# Altium schematic symbol library Various.SchLib: 37 symbols
Pins are listed as number, name and electrical type; pins without a type are passive.

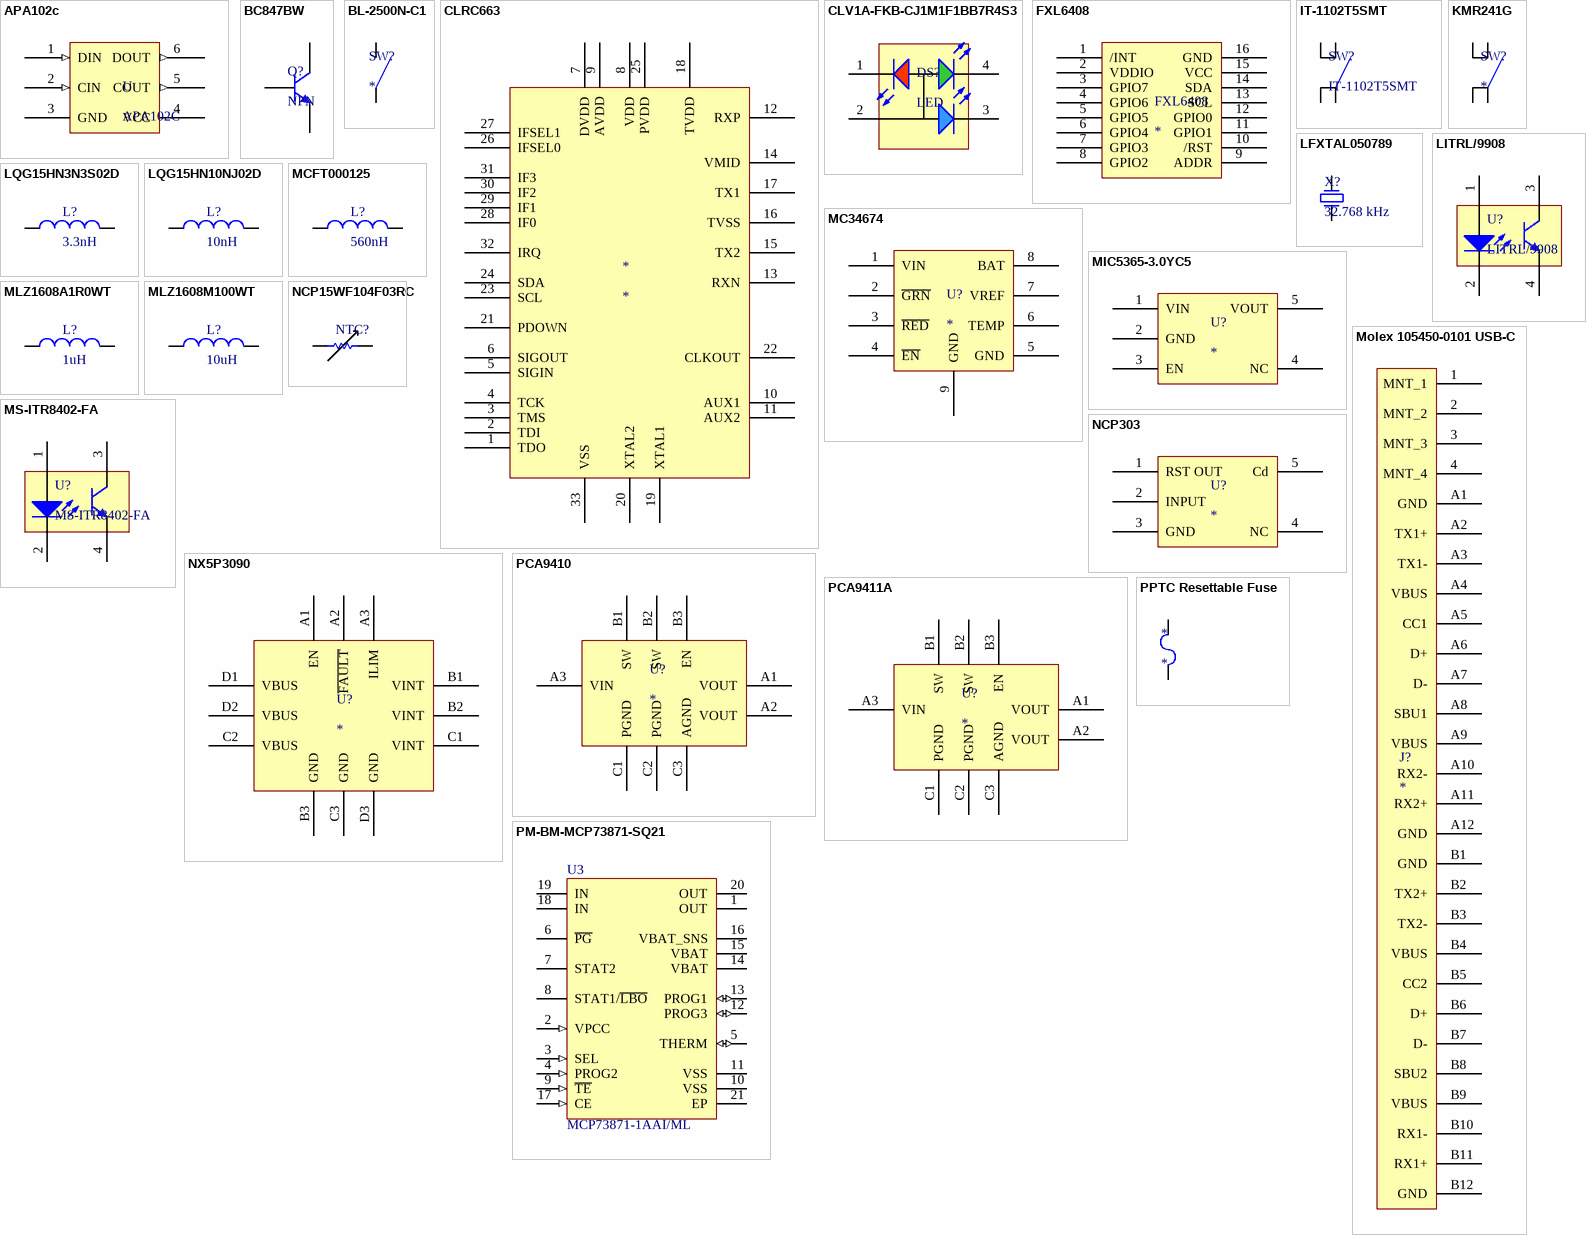
[diagram p0: symbols APA102c to PPTC Resettable Fuse]

## APA102c
designator U, comment APA102C
footprint APA102C (SMD, 6-Leads, Body 5x5mm,)
pins: 1 DIN (in), 2 CIN (in), 3 GND (power), 4 VCC (power), 5 COUT (out), 6 DOUT (out)

## BC847BW
designator Q?, comment NPN
Bipolar (BJT) Single Transistor, General Purpose, NPN, 45 V, 100 MHz, 200 mW, 100 mA, 200 hFE
footprint SOT323
pins: 1 B, 2 E, 3 C

## BL-2500N-C1
designator SW?
SMD vibration sensor
footprint BL-2500N-C1
pins: 1, 2

## CLRC663
designator *
RFID READER, 13.56MHZ, HVQFN-32
footprint HVQFN-32
pins: 1 TDO, 2 TDI, 3 TMS, 4 TCK, 5 SIGIN, 6 SIGOUT, 7 DVDD, 8 VDD, 9 AVDD, 10 AUX1, 11 AUX2, 12 RXP, 13 RXN, 14 VMID, 15 TX2, 16 TVSS, 17 TX1, 18 TVDD, 19 XTAL1, 20 XTAL2, 21 PDOWN, 22 CLKOUT, 23 SCL, 24 SDA, 25 PVDD, 26 IFSEL0, 27 IFSEL1, 28 IF0, 29 IF1, 30 IF2, 31 IF3, 32 IRQ, 33 VSS

## CLV1A-FKB-CJ1M1F1BB7R4S3
designator DS?, comment LED
RGB LED, SMD, 120 °, Round, R 20mA, G 20mA, B 20mA
footprint RGB_LED_3.2x2.8
pins: 1 RED, 2 +, 3 Blue, 4 Green

## FXL6408
designator FXL6408
footprint FXL6408
pins: 1 /INT, 2 VDDIO, 3 GPIO7, 4 GPIO6, 5 GPIO5, 6 GPIO4, 7 GPIO3, 8 GPIO2, 9 ADDR, 10 /RST, 11 GPIO1, 12 GPIO0, 13 SCL, 14 SDA, 15 VCC, 16 GND

## IT-1102T5SMT
designator SW?
Tactile Switch, SPST
footprint IT-1102T5SMT (SPST tactile switch)
pins: 1 A1, 2 B1, 3 A2, 4 B2

## KMR241G
designator SW?
Tactile Switch 2.4x2.8 mm, SPST
footprint KMR241G
pins: 1 A1, 2 B1, 3 A2, 4 B2

## LFXTAL050789
designator X?, comment 32.768 kHz
Crystal, 32.768 kHz, SMD, 2mm x 1.2mm, 12.5 pF, 20 ppm
footprint OSC20x12_2P (Crystal 2.0x1.2 mm 2 Pins)
pins: 1 I/O, 2 I/O

## LITRL/9908
designator U?
Opto Interrupter
footprint LITRL/9908 (Opto Interrupter)
pins: 1 Anode, 2 Cathode, 3 Emitter, 4 Collector

## LQG15HN3N3S02D
designator L?, comment 3.3nH
High Frequency Inductor, LQG15HN Series, 3.3 nH, 300 mA, 0402; Value: 3.3nH
footprint INDC0402
pins: 1, 2

## LQG15HN10NJ02D
designator L?, comment 10nH
High Frequency Inductor, LQG15HN Series, 10 nH, 300 mA, 0402; Value: 10nH
footprint INDC0402
pins: 1, 2

## MC34674
designator U?
High Input Voltage Travel Charger for Single-cell Li-Ion Batteries
footprint UDFN8
pins: 1 VIN (power), 2 ~{GRN} (oc), 3 ~{RED} (oc), 4 ~{EN}, 5 GND (power), 6 TEMP, 7 VREF, 8 BAT, 9 GND (power)

## MCFT000125
designator L?, comment 560nH
High Frequency Inductor, MCFT Series, 560 nH, 230 mA, 0805; Value: 560nH
footprint INDC0805
pins: 1, 2

## MIC5365-3.0YC5
designator U?
3.0V LDO Voltage Regulator
footprint SC-70
pins: 1 VIN, 2 GND, 3 EN, 4 NC, 5 VOUT

## MLZ1608A1R0WT
designator L?, comment 1uH
High Frequency Inductor, MLZ Series, 1 µH, 600 mA, 0603; Value: 1uH
footprint INDC0603
pins: 1, 2

## MLZ1608M100WT
designator L?, comment 10uH
High Frequency Inductor, MLZ Series, 10 µH, 250 mA, 0603; Value: 10uH
footprint INDC0603
pins: 1, 2

## Molex 105450-0101 USB-C
designator J?
USB Shielded I/O Receptacle, Type C, Right Angle, Top Mount, Surface Mount
footprint Molex 105450-0101 USB-C
pins: 1 MNT_1, 2 MNT_2, 3 MNT_3, 4 MNT_4, A1 GND, A2 TX1+, A3 TX1-, A4 VBUS, A5 CC1, A6 D+, A7 D-, A8 SBU1, A9 VBUS, A10 RX2-, A11 RX2+, A12 GND, B1 GND, B2 TX2+, B3 TX2-, B4 VBUS, B5 CC2, B6 D+, B7 D-, B8 SBU2, B9 VBUS, B10 RX1-, B11 RX1+, B12 GND

## MS-ITR8402-FA
designator U?
Opto Interrupter
footprint MS-ITR8402-FA (Opto Interrupter)
pins: 1 Anode, 2 Cathode, 3 Emitter, 4 Collector

## NCP15WF104F03RC
designator NTC?
Thermistor, NTC, 100 kohm, NCP Series, 4250 K, SMD, 0402
footprint THRMC0402
pins: 1, 2

## NCP303
designator U?
3.3 Voltage detector
footprint SOT23-5
pins: 1 RST OUT, 2 INPUT, 3 GND, 4 NC, 5 Cd

## NX5P3090
designator U?
USB PD and type C current-limited power switch
footprint WLCSP12
pins: A1 EN, A2 ~{FAULT}, A3 ILIM, B1 VINT (power), B2 VINT (power), B3 GND (power), C1 VINT (power), C2 VBUS (power), C3 GND (power), D1 VBUS (power), D2 VBUS (power), D3 GND (power)

## PCA9410
designator U?
3.0 MHz, 500 mA, DC-to-DC boost converter, 2.5 min in, 5.0 out, non pass-through
footprint WLCSP9
pins: A1 VOUT, A2 VOUT, A3 VIN, B1 SW, B2 SW, B3 EN, C1 PGND, C2 PGND, C3 AGND

## PCA9411A
designator U?
3.0 MHz, 500 mA, DC-to-DC boost converter, 2.5 min in, 5.25 out, pass-through
footprint WLCSP9
pins: A1 VOUT, A2 VOUT, A3 VIN, B1 SW, B2 SW, B3 EN, C1 PGND, C2 PGND, C3 AGND

## PM-BM-MCP73871-SQ21
designator U3, comment MCP73871-1AAI/ML
Stand-Alone System Load Sharing and Li-Ion/Li-Polymer Battery Charge Management Controller, 4.1V, 20-Pin QFN, Industrial Temperature; PackageDescription: 20-Lead Plastic Quad Flat, No Lead Package (ML) - 4x4x0.9 mm Body [QFN]; PackageVersion: revBB, Aug-2009; DatasheetVersion: revB, May-2009; PackageReference: QFN-ML20
footprint QFN-ML20_N (QFN, 20-Leads, Body 4x4mm, Pitch 0.5mm, Thermal Pad 2.8x2.8mm, IPC Medium Density)
footprint QFN-ML20_L (QFN, 20-Leads, Body 4x4mm, Pitch 0.5mm, Thermal Pad 2.8x2.8mm, IPC High Density)
footprint QFN-ML20_M (QFN, 20-Leads, Body 4x4mm, Pitch 0.5mm, Thermal Pad 2.8x2.8mm, IPC Low Density)
pins: 1 OUT (power), 2 VPCC (in), 3 SEL (in), 4 PROG2 (in), 5 THERM (io), 6 ~{PG} (oc), 7 STAT2 (oc), 8 STAT1/~{LBO} (oc), 9 ~{TE} (in), 10 VSS (power), 11 VSS (power), 12 PROG3 (io), 13 PROG1 (io), 14 VBAT (power), 15 VBAT (power), 16 VBAT_SNS (power), 17 CE (in), 18 IN (power), 19 IN (power), 20 OUT (power), 21 EP (power)

## PPTC Resettable Fuse
designator *
PPTC Resettable Fuse
footprint FUSC0805
pins: 1, 2

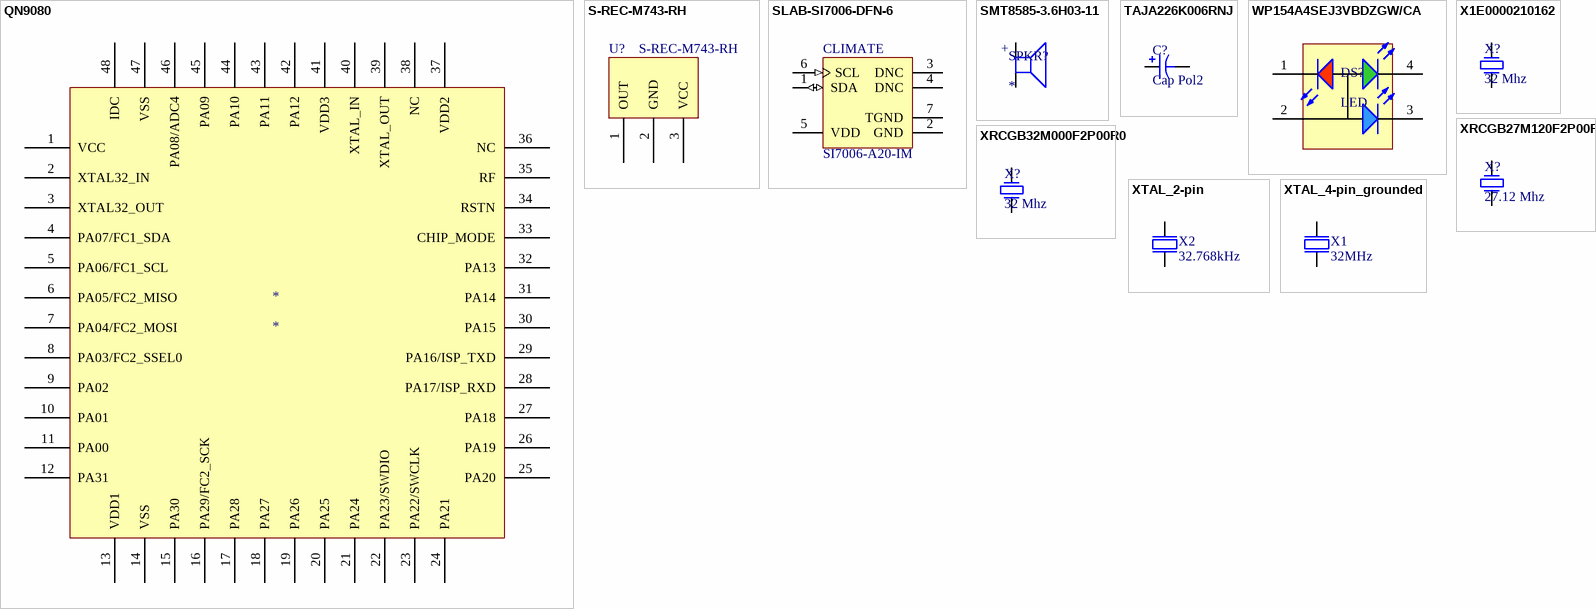
[diagram p1: symbols QN9080 to XTAL_4-pin_grounded]

## QN9080
designator *
BLE microcontroller with 32-bit ARM Cortex-M4
footprint HVQFN-48
pins: 1 VCC, 2 XTAL32_IN, 3 XTAL32_OUT, 4 PA07/FC1_SDA, 5 PA06/FC1_SCL, 6 PA05/FC2_MISO, 7 PA04/FC2_MOSI, 8 PA03/FC2_SSEL0, 9 PA02, 10 PA01, 11 PA00, 12 PA31, 13 VDD1 (power), 14 VSS (power), 15 PA30, 16 PA29/FC2_SCK, 17 PA28, 18 PA27, 19 PA26, 20 PA25, 21 PA24, 22 PA23/SWDIO, 23 PA22/SWCLK, 24 PA21, 25 PA20, 26 PA19, 27 PA18, 28 PA17/ISP_RXD, 29 PA16/ISP_TXD, 30 PA15, 31 PA14, 32 PA13, 33 CHIP_MODE, 34 RSTN, 35 RF, 36 NC, 37 VDD2, 38 NC, 39 XTAL_OUT, 40 XTAL_IN, 41 VDD3 (power), 42 PA12, 43 PA11, 44 PA10, 45 PA09, 46 PA08/ADC4, 47 VSS (power), 48 IDC (power), 49 GND (power) hidden to GND

## S-REC-M743-RH
designator U?
IR Receiver Module 38 kHz
footprint S-REC-M743-RH
pins: 1 OUT, 2 GND (power), 3 VCC (power)

## SLAB-SI7006-DFN-6
designator CLIMATE, comment SI7006-A20-IM
I2C Humidity and Temperature Sensor, 1.9 to 3.6 V, -40 to 125 degC, 6-Pin DFN, RoHS, Tube; Manufacturer: Silicon Labs; Output Type: Digital; Resolution: 12(Humidity)bit,14(Temperature)bit; Minimum Operating Supply Voltage: 1.9V; Sensor Function: Temperature&Humidity; Accuracy: ±1°C,±5%RH; Maximum Operating Supply Voltage: 3.6V; Pin Count: 6; Maximum Operating Temperature: +125°C; Package Reference: DFN-6; Height: 0.75mm; Datasheet URL: https://www.silabs.com/Support%20Documents%2FTechnicalDocs%2FSi7006-A20.pdf; Datasheet Version: Rev. 1.1, 06/2015; Package Type: DFN; Mounting Technology: SurfaceMount; Dimensions: 3x3x0.75mm; Length: 3mm; Package Description: 6-Pin Small Outline No-Lead Package, Body 3 x 3 mm, Pitch 1 mm; Minimum Operating Temperature: -40°C; Interface Type: I2C; Mounting Type: SurfaceMount; Width: 3mm; Manufacturer URL: http://www.silabs.com/
footprint SLAB-DFN-6-1500X2400TP_V (SON, 6-Leads, Body 3x3mm, Pitch 1mm, Thermal Pad 1.6x2.5mm)
pins: 1 SDA (io) "I2C data", 2 GND (power) "Ground. This pin is connected to ground on the circuit board through a trace. Do not connect directly to GND plane.", 3 DNC "These pins should be soldered to pads on the PCB for mechanical stability; they can be electrically floating or tied to VDD (do not tie to GND).", 4 DNC "These pins should be soldered to pads on the PCB for mechanical stability; they can be electrically floating or tied to VDD (do not tie to GND).", 5 VDD (power) "Power. This pin is connected to power on the circuit board.", 6 SCL (in) "I2C clock", 7 TGND (power) "This pad is connected to GND internally. This pad is the main thermal input to the on-chip temperature sensor. The paddle should be soldered to a floating pad."

## SMT8585-3.6H03-11
designator SPKR?
Electro-Magnet Transducer, 2.5-4.5 Vo-p, 15±3ohm
footprint SMT8585-3.6H03-11
pins: 1 +, 2 -, 3 M hidden, 4 M hidden

## TAJA226K006RNJ
designator C?, comment Cap Pol2
Surface Mount Tantalum Capacitor, 22 µF, 6.3 V, TAJ Series, ± 10%, 1206 [3216 Metric]
footprint POLCAP1206
pins: 1, 2

## WP154A4SEJ3VBDZGW/CA
designator DS?, comment LED
RGB LED, 5MM Through Hole, Common Anode
footprint RGB_LED_5MM
pins: 1 RED, 2 +, 3 Blue, 4 Green

## X1E0000210162
designator X?, comment 32 Mhz
Crystal, 32 MHz, SMD, 3.2mm x 2.5mm, 10 ppm, 9 pF, 10 ppm
footprint OSC32X25
pins: 1 I/O, 2 GND hidden to GND, 3 I/O, 4 GND hidden to GND

## XRCGB27M120F2P00R0
designator X?, comment 27.12 Mhz
Crystal, 27.12 MHz, SMD, 2mm x 1.6mm, 20 ppm, 6 pF
footprint OSC20x16
pins: 1 I/O, 2 GND hidden to GND, 3 I/O, 4 GND hidden to GND

## XRCGB32M000F2P00R0
designator X?, comment 32 Mhz
Crystal, 32 MHz, SMD, 2mm x 1.6mm, 20 ppm, 6 pF
footprint OSC20x16
pins: 1 I/O, 2 GND hidden to GND, 3 I/O, 4 GND hidden to GND

## XTAL_2-pin
designator X2, comment 32.768kHz
EPSON TOYOCOM - FC-135 32.768KHZ ±20PPM,9.0PF - CRYSTAL, SM, WATCH; Part Number: XTAL_FC-135 32.768k; 2nd source part number: 127-8037; Note: XTAL SMD 32.768kHz, 3215; Artikkelnr Noca: 22019091; Artikkelnr Simpro: N.A.; Manufacturer: Epson Toyocom; Manufacturer Part Number: FC-135 32.768KHZ ±20PPM,9.0PF; Datasheet: http://www.farnell.com/datasheets/57480.pdf; LatestRevisionDate: 2014-03-27; Pin Count: 2; Publisher: Nordic Semiconductor; Published: 2010-10-18; Value: 32.768kHz; Supplier: Digi-Key; Supplier part number: FC-135 32.7680KA-AC-ND; 2nd source Supplier: Farnell; Footprint Doc: XTAL_3215
footprint XTAL_3215
pins: 1 inp, 2 out

## XTAL_4-pin_grounded
designator X1, comment 32MHz
XTAL SMD 2016, 32MHz, Cl=8pF, Tol: ±10ppm, Stab: ±10ppm; Part Number: XTAL_SMD2016_32MHz_8pF_Epson; Manufacturer: Epson Toyocom; Manufacturer Part Number: Q22FA12800025; Note: XTAL SMD 32.000MHz; Artikkelnr Noca: N.A.; Datasheet: http://www.epsondevice.com/docs/qd/en/DownloadServlet?id=ID000449; LatestRevisionDate: 2014-11-27; Pin Count: 4; Publisher: Nordic Semiconductor; Published: 2012-03-09; Value: 32MHz; Supplier: Farnell; Supplier part number: 171-2806; 2nd source Supplier: *; 2nd source part number: *; Footprint Doc: XTAL_2016; Artikkelnr Simpro: N.A.
footprint BT-XTAL_2016 (Crystal 2.0 x 1.6 mm)
pins: 1 inp, 2 GND hidden to GND, 3 out, 4 GND hidden to GND